# Altium schematic symbol library B520C-13-F.SchLib: 1 symbol
Pins are listed as number, name and electrical type; pins without a type are passive.

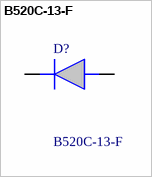
[diagram p0: symbol B520C-13-F]

## B520C-13-F
designator D?
Schottky Diodes & Rectifiers 20V 5A; Manufacturer_Name: Diodes Incorporated; Geometry.Height: 2.5mm; Mouser Part Number: 621-B520C-F; Mouser Price/Stock: https://www.mouser.co.uk/ProductDetail/Diodes-Incorporated/B520C-13-F?qs=M9x7oF%252BgWA8vHz6ClNP3LA%3D%3D; Manufacturer_Part_Number: B520C-13-F; Datasheet Link: *
footprint DIOM7959X250N
pins: 1 K, 2 A